# Altium schematic symbol library Schematics.SchLib: 1 symbol
Pins are listed as number, name and electrical type; pins without a type are passive.

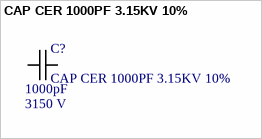
[diagram p0: symbol CAP CER 1000PF 3.15KV 10%]

## CAP CER 1000PF 3.15KV 10%
designator C?  value 1000pF  Max voltage: 3150 V
DEBB33F102KA3B
footprint CAP TH, 2 PADS, D0.7mm, L16mm (High-voltage capacitor footprint, pad distance rated for 3.15kV)
pins: 1, 2